# Altium footprint library SSO-8.PcbLib: 1 footprints
Each footprint in its own frame and in the unit in brackets; x right, y up, seen from the top. Pads: shape width x height; smd on the part's side, far side on the other; paste and mask are expansions set on the pad; w line width, h text height; cw(c..) or ccw(c..) is an arc to the next point about the centre after c.
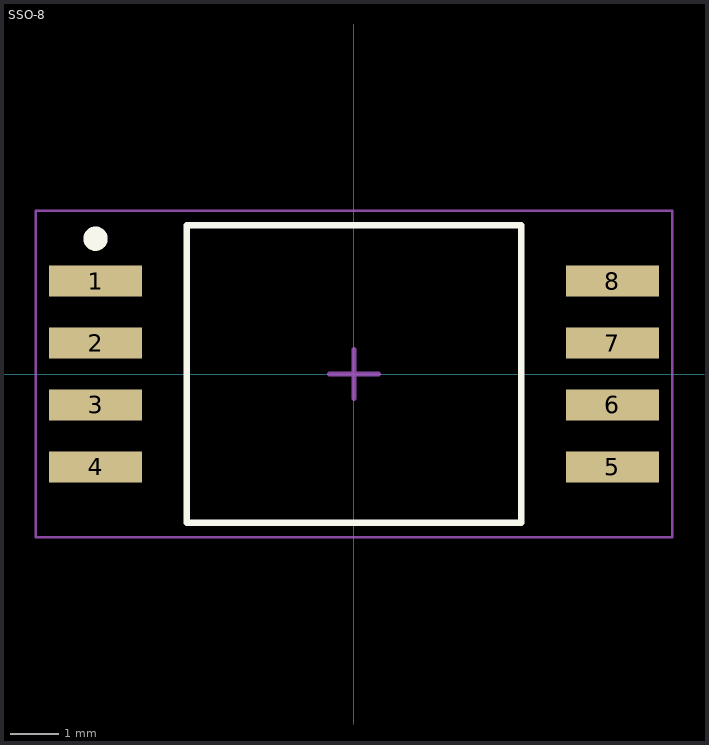
[diagram p0: the footprint, top view; thin cyan lines are the x and y axes]

## SSO-8 [mm] "SOP, 8-Leads, Body 5,85x6,81mm, Pitch 1,27mm, IPC Medium Density"
height 3.31
pads (8):
  rect 1.905x0.64 smd: 1(-5.3,1.905) 2(-5.3,0.635) 3(-5.3,-0.635) 4(-5.3,-1.905) 5(5.3,-1.905) 6(5.3,-0.635) 7(5.3,0.635) 8(5.3,1.905)
Top Overlay:
  circle w0.25: c-5.3,2.775 r0.125
  lines w0.127: 3.429,-3.052 3.429,3.048 ; 3.429,-3.05 -3.429,-3.05 -3.429,3.05 3.429,3.05
Mechanical 15:
  lines w0.05: -6.525,-3.35 -6.525,3.35 6.525,3.35 6.525,-3.35 -6.525,-3.35
  lines w0.1: -0.5,0 0.5,0 ; 0,-0.5 0,0.5
3D body: height 1.7, standoff 0, extent -5.436,-2.413 5.207,2.413